# EAGLE library part ST25R3916B-BWLT (library ST25R3916B-BWLT)
NFC/RFID Tags & Transponders Source: Datasheet <https://www.st.com/resource/en/datasheet/st25r3916b.pdf>
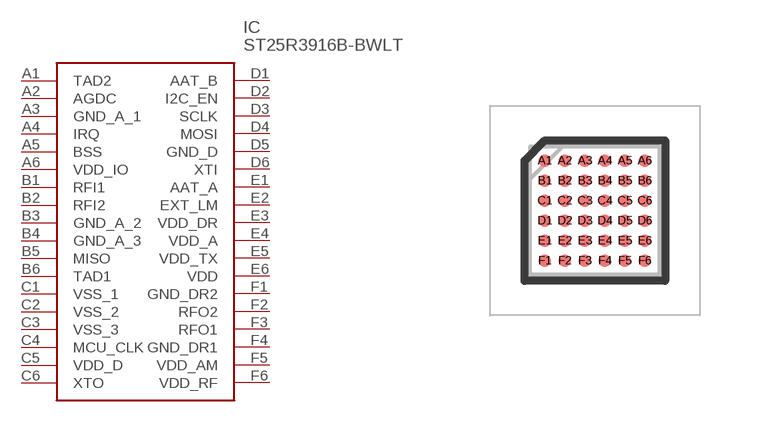
[diagram p0: symbol with the pads of BGA36C50P6X6_322X321X63; footprint BGA36C50P6X6_322X321X63]

Designator prefix IC

## ST25R3916B-BWLT (Description: NFC/RFID Tags & Transponders; Height: 0.63mm; Manufacturer_Name: STMicroelectronics; Manufacturer_Part_Number: ST25R3916B-BWLT; Mouser_Part_Number: 511-ST25R3916B-BWLT; Mouser_Price-Stock: https://www.mouser.co.uk/ProductDetail/STMicroelectronics/ST25R3916B-BWLT?qs=vvQtp7zwQdNFrlaiWikiwQ%3D%3D)  [BGA36C50P6X6_322X321X63]
A1  TAD2
A2  AGDC
A3  GND_A_1
A4  IRQ
A5  BSS
A6  VDD_IO
B1  RFI1
B2  RFI2
B3  GND_A_2
B4  GND_A_3
B5  MISO
B6  TAD1
C1  VSS_1
C2  VSS_2
C3  VSS_3
C4  MCU_CLK
C5  VDD_D
C6  XTO
D1  AAT_B
D2  I2C_EN
D3  SCLK
D4  MOSI
D5  GND_D
D6  XTI
E1  AAT_A
E2  EXT_LM
E3  VDD_DR
E4  VDD_A
E5  VDD_TX
E6  VDD
F1  GND_DR2
F2  RFO2
F3  RFO1
F4  GND_DR1
F5  VDD_AM
F6  VDD_RF

## Footprint BGA36C50P6X6_322X321X63 (pad centres in mm)
WLCSP36_2022
smd 0.314 x 0.314: A1 -1.25,1.25; A2 -0.75,1.25; A3 -0.25,1.25; A4 0.25,1.25; A5 0.75,1.25; A6 1.25,1.25; B1 -1.25,0.75; B2 -0.75,0.75; B3 -0.25,0.75; B4 0.25,0.75; B5 0.75,0.75; B6 1.25,0.75; C1 -1.25,0.25; C2 -0.75,0.25; C3 -0.25,0.25; C4 0.25,0.25; C5 0.75,0.25; C6 1.25,0.25; D1 -1.25,-0.25; D2 -0.75,-0.25; D3 -0.25,-0.25; D4 0.25,-0.25; D5 0.75,-0.25; D6 1.25,-0.25; E1 -1.25,-0.75; E2 -0.75,-0.75; E3 -0.25,-0.75; E4 0.25,-0.75; E5 0.75,-0.75; E6 1.25,-0.75; F1 -1.25,-1.25; F2 -0.75,-1.25; F3 -0.25,-1.25; F4 0.25,-1.25; F5 0.75,-1.25; F6 1.25,-1.25